# Altium schematic symbol library Polar capacitor.Schlib: 1 symbol
Pins are listed as number, name and electrical type; pins without a type are passive.

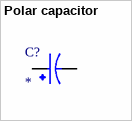
[diagram p0: symbol Polar capacitor]

## Polar capacitor
designator C?
pins: 1, 2